# Altium schematic symbol library SCH - MCU - STM32 - ST MICROELECTRONICS STM32L151R(6-8-B)HXA TFBGA64.SchLib: 1 symbol
Pins are listed as number, name and electrical type; pins without a type are passive.

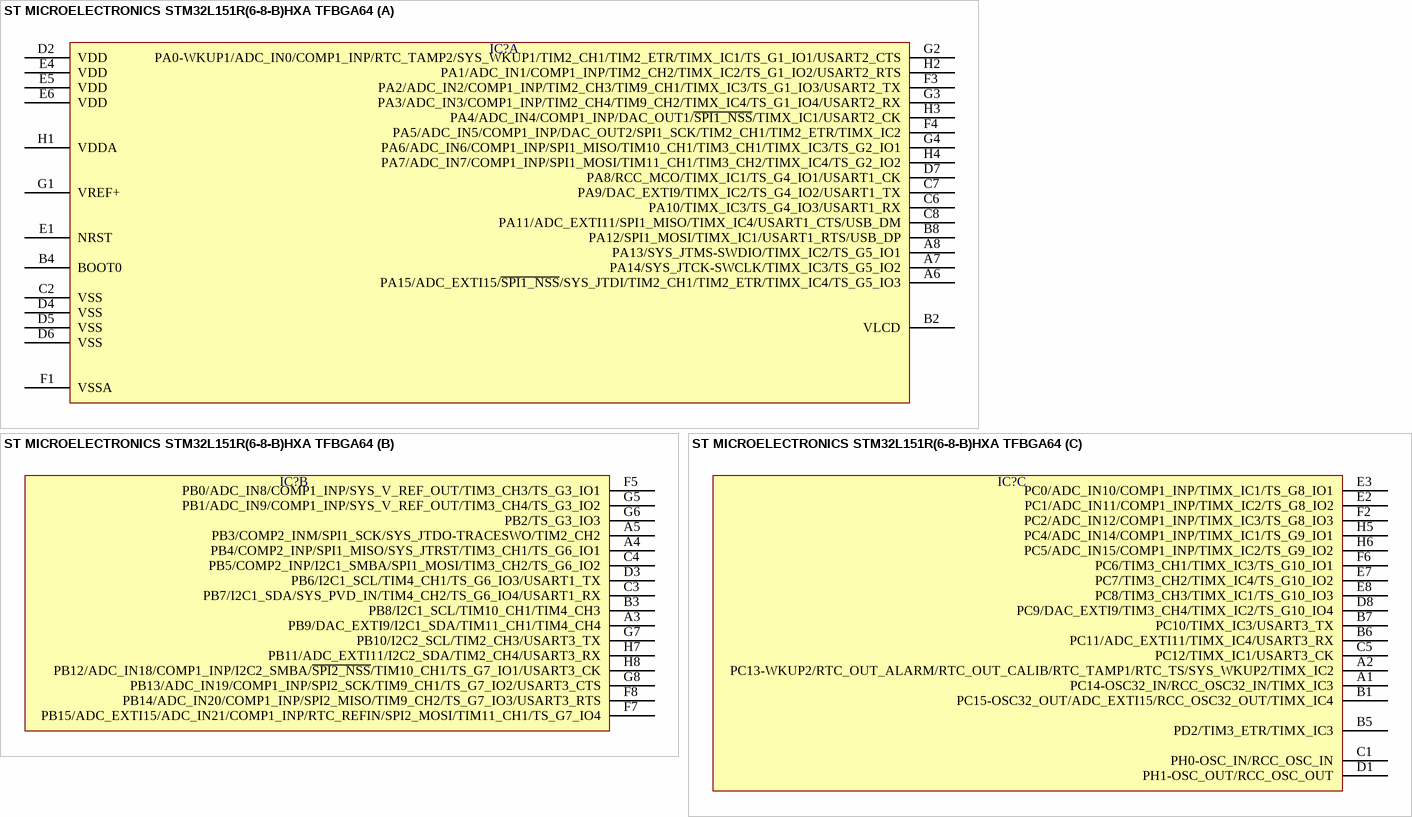
[diagram p0: symbol ST MICROELECTRONICS STM32L151R(6-8-B)HXA TFBGA64]

## ST MICROELECTRONICS STM32L151R(6-8-B)HXA TFBGA64
designator IC?  (value not drawn)
part A pins: A6 PA15/ADC_EXTI15/~{SPI1_NSS}/SYS_JTDI/TIM2_CH1/TIM2_ETR/TIMX_IC4/TS_G5_IO3, A7 PA14/SYS_JTCK-SWCLK/TIMX_IC3/TS_G5_IO2, A8 PA13/SYS_JTMS-SWDIO/TIMX_IC2/TS_G5_IO1, B2 VLCD, B4 BOOT0, B8 PA12/SPI1_MOSI/TIMX_IC1/USART1_RTS/USB_DP, C2 VSS, C6 PA10/TIMX_IC3/TS_G4_IO3/USART1_RX, C7 PA9/DAC_EXTI9/TIMX_IC2/TS_G4_IO2/USART1_TX, C8 PA11/ADC_EXTI11/SPI1_MISO/TIMX_IC4/USART1_CTS/USB_DM, D2 VDD, D4 VSS, D5 VSS, D6 VSS, D7 PA8/RCC_MCO/TIMX_IC1/TS_G4_IO1/USART1_CK, E1 NRST, E4 VDD, E5 VDD, E6 VDD, F1 VSSA, F3 PA2/ADC_IN2/COMP1_INP/TIM2_CH3/TIM9_CH1/TIMX_IC3/TS_G1_IO3/USART2_TX, F4 PA5/ADC_IN5/COMP1_INP/DAC_OUT2/SPI1_SCK/TIM2_CH1/TIM2_ETR/TIMX_IC2, G1 VREF+, G2 PA0-WKUP1/ADC_IN0/COMP1_INP/RTC_TAMP2/SYS_WKUP1/TIM2_CH1/TIM2_ETR/TIMX_IC1/TS_G1_IO1/USART2_CTS, G3 PA3/ADC_IN3/COMP1_INP/TIM2_CH4/TIM9_CH2/TIMX_IC4/TS_G1_IO4/USART2_RX, G4 PA6/ADC_IN6/COMP1_INP/SPI1_MISO/TIM10_CH1/TIM3_CH1/TIMX_IC3/TS_G2_IO1, H1 VDDA, H2 PA1/ADC_IN1/COMP1_INP/TIM2_CH2/TIMX_IC2/TS_G1_IO2/USART2_RTS, H3 PA4/ADC_IN4/COMP1_INP/DAC_OUT1/~{SPI1_NSS}/TIMX_IC1/USART2_CK, H4 PA7/ADC_IN7/COMP1_INP/SPI1_MOSI/TIM11_CH1/TIM3_CH2/TIMX_IC4/TS_G2_IO2
part B pins: A3 PB9/DAC_EXTI9/I2C1_SDA/TIM11_CH1/TIM4_CH4, A4 PB4/COMP2_INP/SPI1_MISO/SYS_JTRST/TIM3_CH1/TS_G6_IO1, A5 PB3/COMP2_INM/SPI1_SCK/SYS_JTDO-TRACESWO/TIM2_CH2, B3 PB8/I2C1_SCL/TIM10_CH1/TIM4_CH3, C3 PB7/I2C1_SDA/SYS_PVD_IN/TIM4_CH2/TS_G6_IO4/USART1_RX, C4 PB5/COMP2_INP/I2C1_SMBA/SPI1_MOSI/TIM3_CH2/TS_G6_IO2, D3 PB6/I2C1_SCL/TIM4_CH1/TS_G6_IO3/USART1_TX, F5 PB0/ADC_IN8/COMP1_INP/SYS_V_REF_OUT/TIM3_CH3/TS_G3_IO1, F7 PB15/ADC_EXTI15/ADC_IN21/COMP1_INP/RTC_REFIN/SPI2_MOSI/TIM11_CH1/TS_G7_IO4, F8 PB14/ADC_IN20/COMP1_INP/SPI2_MISO/TIM9_CH2/TS_G7_IO3/USART3_RTS, G5 PB1/ADC_IN9/COMP1_INP/SYS_V_REF_OUT/TIM3_CH4/TS_G3_IO2, G6 PB2/TS_G3_IO3, G7 PB10/I2C2_SCL/TIM2_CH3/USART3_TX, G8 PB13/ADC_IN19/COMP1_INP/SPI2_SCK/TIM9_CH1/TS_G7_IO2/USART3_CTS, H7 PB11/ADC_EXTI11/I2C2_SDA/TIM2_CH4/USART3_RX, H8 PB12/ADC_IN18/COMP1_INP/I2C2_SMBA/~{SPI2_NSS}/TIM10_CH1/TS_G7_IO1/USART3_CK
part C pins: A1 PC14-OSC32_IN/RCC_OSC32_IN/TIMX_IC3, A2 PC13-WKUP2/RTC_OUT_ALARM/RTC_OUT_CALIB/RTC_TAMP1/RTC_TS/SYS_WKUP2/TIMX_IC2, B1 PC15-OSC32_OUT/ADC_EXTI15/RCC_OSC32_OUT/TIMX_IC4, B5 PD2/TIM3_ETR/TIMX_IC3, B6 PC11/ADC_EXTI11/TIMX_IC4/USART3_RX, B7 PC10/TIMX_IC3/USART3_TX, C1 PH0-OSC_IN/RCC_OSC_IN, C5 PC12/TIMX_IC1/USART3_CK, D1 PH1-OSC_OUT/RCC_OSC_OUT, D8 PC9/DAC_EXTI9/TIM3_CH4/TIMX_IC2/TS_G10_IO4, E2 PC1/ADC_IN11/COMP1_INP/TIMX_IC2/TS_G8_IO2, E3 PC0/ADC_IN10/COMP1_INP/TIMX_IC1/TS_G8_IO1, E7 PC7/TIM3_CH2/TIMX_IC4/TS_G10_IO2, E8 PC8/TIM3_CH3/TIMX_IC1/TS_G10_IO3, F2 PC2/ADC_IN12/COMP1_INP/TIMX_IC3/TS_G8_IO3, F6 PC6/TIM3_CH1/TIMX_IC3/TS_G10_IO1, H5 PC4/ADC_IN14/COMP1_INP/TIMX_IC1/TS_G9_IO1, H6 PC5/ADC_IN15/COMP1_INP/TIMX_IC2/TS_G9_IO2